# Altium schematic symbol library ADS12B3-ASARH.SchLib: 1 symbol
Pins are listed as number, name and electrical type; pins without a type are passive.

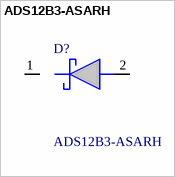
[diagram p0: symbol ADS12B3-ASARH]

## ADS12B3-ASARH
designator D?
SiC Schottky Diodes 1200V 1A,SMBF, Auto Grade; Manufacturer_Name: Sanan Semiconductor; Geometry.Height: 1.3mm; Manufacturer_Part_Number: ADS12B3-ASARH; Mouser Part Number: *; Mouser Price/Stock: *; Arrow Part Number: *; Arrow Price/Stock: *; Datasheet Link: https://download.luminus.com/datasheets/ADS12B3-ASARH.pdf
footprint ADS12B3ASARH
pins: 1 K, 2 A